# Altium schematic symbol library 0.5 - 保险丝-晶振-光耦.SchLib: 28 symbols
Pins are listed as number, name and electrical type; pins without a type are passive.

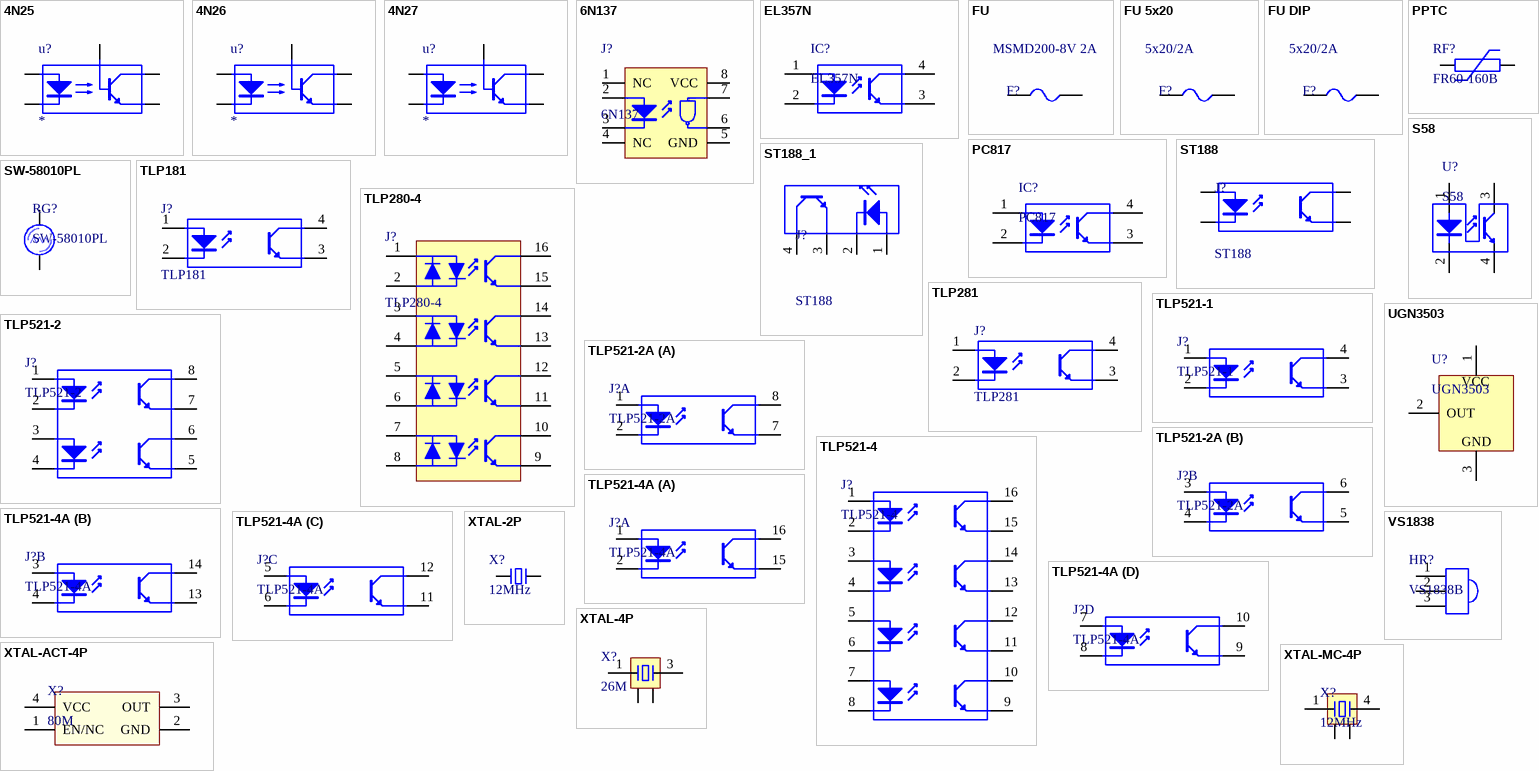
[diagram p0: symbols 4N25 to XTAL-MC-4P]

## 4N25
designator u?
1.库作者: 冰凌猫; 2.库版本: v2.0 (2021.03.30); 3.交流分享: Q群514746572,开源更新,欢迎一起交流学习PCB设计; 4.作者声明: 旨为整合最全库集,欢迎转载,禁止商用！-冰凌猫; 5.备注说明: 该库已二次整合过网上各热销库,基本最全,无需重复搜购安装
footprint DIP-6 (6.8*7.6*3.8(长宽高）)
pins: 1 LED Anode, 2 LED Cathode, 4 Emitter, 5 Collector, 6 BASE

## 4N26
designator u?
1.库作者: 冰凌猫; 2.库版本: v2.0 (2021.03.30); 3.交流分享: Q群514746572,开源更新,欢迎一起交流学习PCB设计; 4.作者声明: 旨为整合最全库集,欢迎转载,禁止商用！-冰凌猫; 5.备注说明: 该库已二次整合过网上各热销库,基本最全,无需重复搜购安装
footprint DIP-6 (6.8*7.6*3.8(长宽高）)
pins: 1 LED Anode, 2 LED Cathode, 4 Emitter, 5 Collector, 6 BASE

## 4N27
designator u?
1.库作者: 冰凌猫; 2.库版本: v2.0 (2021.03.30); 3.交流分享: Q群514746572,开源更新,欢迎一起交流学习PCB设计; 4.作者声明: 旨为整合最全库集,欢迎转载,禁止商用！-冰凌猫; 5.备注说明: 该库已二次整合过网上各热销库,基本最全,无需重复搜购安装
footprint DIP-6 (6.8*7.6*3.8(长宽高）)
pins: 1 LED Anode, 2 LED Cathode, 4 Emitter, 5 Collector, 6 BASE

## 6N137
designator J?
10M高速集成光耦; 1.库作者: 冰凌猫; 2.库版本: v2.0 (2021.03.30); 3.交流分享: Q群514746572,开源更新,欢迎一起交流学习PCB设计; 4.作者声明: 旨为整合最全库集,欢迎转载,禁止商用！-冰凌猫; 5.备注说明: 该库已二次整合过网上各热销库,基本最全,无需重复搜购安装; 0.0_BOM名称: 10M高速集成光耦
footprint DIP8-300 (9.4*7.6*3.8(长宽高）)
footprint DIP8-300_MH (带底座 9.4*7.6*3.8(长宽高）)
footprint SOP8_L (5*6*1.8mm（长宽高）)
footprint SOP8_M (5*6*1.8mm（长宽高）)
footprint SOP8_N (5*6*1.8mm（长宽高）)
pins: 1 NC "Anode", 2 LED+ "Cathode", 3 LED- "Cathode", 4 NC "Cathode", 5 GND "Collector", 6 Vo "Emitter", 7 Ve "Emitter", 8 VCC "Emitter"

## EL357N
designator IC?
线性光耦; 1.库作者: 冰凌猫; 2.库版本: v2.0 (2021.03.30); 3.交流分享: Q群514746572,开源更新,欢迎一起交流学习PCB设计; 4.作者声明: 旨为整合最全库集,欢迎转载,禁止商用！-冰凌猫; 5.备注说明: 该库已二次整合过网上各热销库,基本最全,无需重复搜购安装; 0.0_BOM名称: 线性光耦
footprint DIP4-300 (4.6*7.6*3.8(长宽高）)
footprint SOP4_N (4.4*6.8*2.1mm（长宽高）)
footprint SOP4_L (4.4*6.8*2.1mm（长宽高）)
footprint SOP4_M (4.4*6.8*2.1mm（长宽高）)
pins: 1 A "Anode", 2 K "Cathode", 3 E "Emitter", 4 C "Collector"

## FU
designator F?, comment MSMD200-8V 2A
贴片保险丝; 1.库作者: 冰凌猫; 2.库版本: v2.0 (2021.03.30); 3.交流分享: Q群514746572,开源更新,欢迎一起交流学习PCB设计; 4.作者声明: 旨为整合最全库集,欢迎转载,禁止商用！-冰凌猫; 5.备注说明: 该库已二次整合过网上各热销库,基本最全,无需重复搜购安装; 0.0_BOM名称: 贴片保险丝
footprint FU 0402 (贴片保险丝)
footprint FU 0603 (贴片保险丝)
footprint FU 0805 (贴片保险丝)
footprint FU 1206 (贴片保险丝)
footprint FU 1210 (贴片保险丝)
footprint FU 1812 (贴片保险丝)
pins: 1, 2

## FU 5x20
designator F?, comment 5x20/2A
5*20保险丝; 1.库作者: 冰凌猫; 2.库版本: v2.0 (2021.03.30); 3.交流分享: Q群514746572,开源更新,欢迎一起交流学习PCB设计; 4.作者声明: 旨为整合最全库集,欢迎转载,禁止商用！-冰凌猫; 5.备注说明: 该库已二次整合过网上各热销库,基本最全,无需重复搜购安装; 0.0_BOM名称: 5*20保险丝
footprint FU BLX-A (BLX-A型保险丝座)
footprint FU 5x20 (5*20保险管底座夹子)
pins: 1, 2

## FU DIP
designator F?, comment 5x20/2A
直插保险丝; 1.库作者: 冰凌猫; 2.库版本: v2.0 (2021.03.30); 3.交流分享: Q群514746572,开源更新,欢迎一起交流学习PCB设计; 4.作者声明: 旨为整合最全库集,欢迎转载,禁止商用！-冰凌猫; 5.备注说明: 该库已二次整合过网上各热销库,基本最全,无需重复搜购安装; 0.0_BOM名称: 直插保险丝
footprint FU 4x16 (4*16mm(直径，脚距）)
footprint FU 4x16_V (4*16mm(直径，脚距）)
pins: 1, 2

## PC817
designator IC?
线性光耦; 1.库作者: 冰凌猫; 2.库版本: v2.0 (2021.03.30); 3.交流分享: Q群514746572,开源更新,欢迎一起交流学习PCB设计; 4.作者声明: 旨为整合最全库集,欢迎转载,禁止商用！-冰凌猫; 5.备注说明: 该库已二次整合过网上各热销库,基本最全,无需重复搜购安装; 0.0_BOM名称: 线性光耦
footprint DIP4-300 (4.6*7.6*3.8(长宽高）)
pins: 1 A "Anode", 2 K "Cathode", 3 E "Emitter", 4 C "Collector"

## PPTC
designator RF?, comment FR60-160B
PPTC自恢复保险丝; 1.库作者: 冰凌猫; 2.库版本: v2.0 (2021.03.30); 3.交流分享: Q群514746572,开源更新,欢迎一起交流学习PCB设计; 4.作者声明: 旨为整合最全库集,欢迎转载,禁止商用！-冰凌猫; 5.备注说明: 该库已二次整合过网上各热销库,基本最全,无需重复搜购安装; 0.0_BOM名称: PPTC自恢复保险丝
footprint FR60-160B (直径15.5mm，厚度3mm，脚距5.1mm)
pins: 1, 2

## S58
designator U?
槽间光耦; 1.库作者: 冰凌猫; 2.库版本: v2.0 (2021.03.30); 3.交流分享: Q群514746572,开源更新,欢迎一起交流学习PCB设计; 4.作者声明: 旨为整合最全库集,欢迎转载,禁止商用！-冰凌猫; 5.备注说明: 该库已二次整合过网上各热销库,基本最全,无需重复搜购安装; 0.0_BOM名称: 槽间光耦
footprint S58 (对射型光耦)
pins: 1 A, 2 K, 3 C, 4 E

## ST188
designator J?
反射式光电传感器; 1.库作者: 冰凌猫; 2.库版本: v2.0 (2021.03.30); 3.交流分享: Q群514746572,开源更新,欢迎一起交流学习PCB设计; 4.作者声明: 旨为整合最全库集,欢迎转载,禁止商用！-冰凌猫; 5.备注说明: 该库已二次整合过网上各热销库,基本最全,无需重复搜购安装
footprint ST188 (反射光电传感器)
pins: 1 A "Anode", 2 K "Cathode", 3 E "Emitter", 4 C "Collector"

## ST188_1
designator J?, comment ST188
反射型光耦; 1.库作者: 冰凌猫; 2.库版本: v2.0 (2021.03.30); 3.交流分享: Q群514746572,开源更新,欢迎一起交流学习PCB设计; 4.作者声明: 旨为整合最全库集,欢迎转载,禁止商用！-冰凌猫; 5.备注说明: 该库已二次整合过网上各热销库,基本最全,无需重复搜购安装; 0.0_BOM名称: 反射型光耦
footprint ST188 (反射型光耦)
pins: 1 A "Anode", 2 K "Cathode", 3 E "Emitter", 4 C "Collector"

## SW-58010PL
designator RG?
震动传感器; 1.库作者: 冰凌猫; 2.库版本: v2.0 (2021.03.30); 3.交流分享: Q群514746572,开源更新,欢迎一起交流学习PCB设计; 4.作者声明: 旨为整合最全库集,欢迎转载,禁止商用！-冰凌猫; 5.备注说明: 该库已二次整合过网上各热销库,基本最全,无需重复搜购安装; 0.0_BOM名称: 震动传感器
footprint SW-58010PL-WI (3.2mm*8.5mm(直径*长度）)
footprint SW-58010PL-LI (3.2mm*8.5mm(直径*长度）)
pins: 1, 2

## TLP181
designator J?
光耦; 1.库作者: 冰凌猫; 2.库版本: v2.0 (2021.03.30); 3.交流分享: Q群514746572,开源更新,欢迎一起交流学习PCB设计; 4.作者声明: 旨为整合最全库集,欢迎转载,禁止商用！-冰凌猫; 5.备注说明: 该库已二次整合过网上各热销库,基本最全,无需重复搜购安装; 0.0_BOM名称: 光耦
footprint SOP4_N (4.4*6.8*2.1mm（长宽高）)
footprint SOP4_L (4.4*6.8*2.1mm（长宽高）)
footprint SOP4_M (4.4*6.8*2.1mm（长宽高）)
footprint DIP4-300 (Footprint not found)
pins: 1 A "Anode", 2 K "Cathode", 3 E "Emitter", 4 C "Collector"

## TLP280-4
designator J?
4组光耦; 1.库作者: 冰凌猫; 2.库版本: v2.0 (2021.03.30); 3.交流分享: Q群514746572,开源更新,欢迎一起交流学习PCB设计; 4.作者声明: 旨为整合最全库集,欢迎转载,禁止商用！-冰凌猫; 5.备注说明: 该库已二次整合过网上各热销库,基本最全,无需重复搜购安装; 0.0_BOM名称: 4组光耦
footprint SOP16N_N (10.3*7*1.8mm（长宽高）)
footprint SOP16N_L (10.3*7*1.8mm（长宽高）)
footprint SOP16N_M (10.3*7*1.8mm（长宽高）)
pins: 1 A "Anode", 2 K "Cathode", 3 E "Emitter", 4 C "Collector", 5, 6, 7, 8, 9, 10, 11, 12, 13, 14, 15, 16

## TLP281
designator J?
光耦; 1.库作者: 冰凌猫; 2.库版本: v2.0 (2021.03.30); 3.交流分享: Q群514746572,开源更新,欢迎一起交流学习PCB设计; 4.作者声明: 旨为整合最全库集,欢迎转载,禁止商用！-冰凌猫; 5.备注说明: 该库已二次整合过网上各热销库,基本最全,无需重复搜购安装
footprint SOP4 (间距1.27mm)
pins: 1 A "Anode", 2 K "Cathode", 3 E "Emitter", 4 C "Collector"

## TLP521-1
designator J?
1路开关光耦; 1.库作者: 冰凌猫; 2.库版本: v2.0 (2021.03.30); 3.交流分享: Q群514746572,开源更新,欢迎一起交流学习PCB设计; 4.作者声明: 旨为整合最全库集,欢迎转载,禁止商用！-冰凌猫; 5.备注说明: 该库已二次整合过网上各热销库,基本最全,无需重复搜购安装; 0.0_BOM名称: 1路开关光耦
footprint DIP4-300 (4.6*7.6*3.8(长宽高）)
footprint SOP4-W2.54_N (6.5*4.58*3.5mm（长宽高）)
footprint SOP4-W2.54_L (6.5*4.58*3.5mm（长宽高）)
footprint SOP4-W2.54_M (6.5*4.58*3.5mm（长宽高）)
pins: 1 A "Anode", 2 K "Cathode", 3 E "Emitter", 4 C "Collector"

## TLP521-2
designator J?
2路开关光耦; 1.库作者: 冰凌猫; 2.库版本: v2.0 (2021.03.30); 3.交流分享: Q群514746572,开源更新,欢迎一起交流学习PCB设计; 4.作者声明: 旨为整合最全库集,欢迎转载,禁止商用！-冰凌猫; 5.备注说明: 该库已二次整合过网上各热销库,基本最全,无需重复搜购安装; 0.0_BOM名称: 2路开关光耦
footprint DIP8-300 (9.4*7.6*3.8(长宽高）)
footprint SOP8-W2.54_N (6.5*9.66*3.5mm（长宽高）)
footprint SOP8-W2.54_L (6.5*9.66*3.5mm（长宽高）)
footprint SOP8-W2.54_M (6.5*9.66*3.5mm（长宽高）)
pins: 1 1A "Anode", 2 1K "Cathode", 3 2A "Anode", 4 2K "Cathode", 5 2E "Emitter", 6 2C "Collector", 7 1E "Emitter", 8 1C "Collector"

## TLP521-2A
designator J?
2路开关光耦; 1.库作者: 冰凌猫; 2.库版本: v2.0 (2021.03.30); 3.交流分享: Q群514746572,开源更新,欢迎一起交流学习PCB设计; 4.作者声明: 旨为整合最全库集,欢迎转载,禁止商用！-冰凌猫; 5.备注说明: 该库已二次整合过网上各热销库,基本最全,无需重复搜购安装; 0.0_BOM名称: 2路开关光耦
footprint DIP8-300 (9.4*7.6*3.8(长宽高）)
footprint SOP8-W2.54_N (6.5*9.66*3.5mm（长宽高）)
footprint SOP8-W2.54_L (6.5*9.66*3.5mm（长宽高）)
footprint SOP8-W2.54_M (6.5*9.66*3.5mm（长宽高）)
part A pins: 1 1A "Anode", 2 1K "Cathode", 7 1E "Emitter", 8 1C "Collector"
part B pins: 3 2A "Anode", 4 2K "Cathode", 5 2E "Emitter", 6 2C "Collector"

## TLP521-4
designator J?
4路开关光耦; 1.库作者: 冰凌猫; 2.库版本: v2.0 (2021.03.30); 3.交流分享: Q群514746572,开源更新,欢迎一起交流学习PCB设计; 4.作者声明: 旨为整合最全库集,欢迎转载,禁止商用！-冰凌猫; 5.备注说明: 该库已二次整合过网上各热销库,基本最全,无需重复搜购安装; 0.0_BOM名称: 4路开关光耦
footprint DIP16-300 (19.3*7.6*3.8(长宽高）)
footprint SOP16-W2.54_N (6.5*19.82*3.5mm（长宽高）)
footprint SOP16-W2.54_L (6.5*19.82*3.5mm（长宽高）)
footprint SOP16-W2.54_M (6.5*19.82*3.5mm（长宽高）)
pins: 1 1A "Anode", 2 1K "Cathode", 3 2A "Anode", 4 2K "Cathode", 5 3A "Anode", 6 3K "Cathode", 7 4A "Anode", 8 4K "Cathode", 9 4E "Emitter", 10 4C "Collector", 11 3E "Emitter", 12 3C "Collector", 13 2E "Emitter", 14 2C "Collector", 15 1E "Emitter", 16 1C "Collector"

## TLP521-4A
designator J?
4路开关光耦; 1.库作者: 冰凌猫; 2.库版本: v2.0 (2021.03.30); 3.交流分享: Q群514746572,开源更新,欢迎一起交流学习PCB设计; 4.作者声明: 旨为整合最全库集,欢迎转载,禁止商用！-冰凌猫; 5.备注说明: 该库已二次整合过网上各热销库,基本最全,无需重复搜购安装; 0.0_BOM名称: 4路开关光耦
footprint DIP16-300 (19.3*7.6*3.8(长宽高）)
footprint SOP16-W2.54_N (6.5*19.82*3.5mm（长宽高）)
footprint SOP16-W2.54_L (6.5*19.82*3.5mm（长宽高）)
footprint SOP16-W2.54_M (6.5*19.82*3.5mm（长宽高）)
part A pins: 1 1A "Anode", 2 1K "Cathode", 15 1E "Emitter", 16 1C "Collector"
part B pins: 3 2A "Anode", 4 2K "Cathode", 13 2E "Emitter", 14 2C "Collector"
part C pins: 5 3A "Anode", 6 3K "Cathode", 11 3E "Emitter", 12 3C "Collector"
part D pins: 7 4A "Anode", 8 4K "Cathode", 9 4E "Emitter", 10 4C "Collector"

## UGN3503
designator U?
线性霍尔传感器; 1.库作者: 冰凌猫; 2.库版本: v2.0 (2021.03.30); 3.交流分享: Q群514746572,开源更新,欢迎一起交流学习PCB设计; 4.作者声明: 旨为整合最全库集,欢迎转载,禁止商用！-冰凌猫; 5.备注说明: 该库已二次整合过网上各热销库,基本最全,无需重复搜购安装; 0.0_BOM名称: 线性霍尔传感器
footprint VS1838B-A (一体红外接收头)
footprint VS1838B-B (一体红外接收头)
footprint VS1838B-B_H (卧式一体红外接收头)
footprint VS1838B-A_H (卧式一体红外接收头)
pins: 1 VCC, 2 OUT, 3 GND

## VS1838
designator HR?, comment VS1838B
红外接收头; 1.库作者: 冰凌猫; 2.库版本: v2.0 (2021.03.30); 3.交流分享: Q群514746572,开源更新,欢迎一起交流学习PCB设计; 4.作者声明: 旨为整合最全库集,欢迎转载,禁止商用！-冰凌猫; 5.备注说明: 该库已二次整合过网上各热销库,基本最全,无需重复搜购安装; 0.0_BOM名称: 红外接收头
footprint VS1838B-A (一体红外接收头)
footprint VS1838B-B (一体红外接收头)
footprint VS1838B-B_H (卧式一体红外接收头)
footprint VS1838B-A_H (卧式一体红外接收头)
pins: 1 A "Anode", 2 K "Cathode", 3 E "Emitter"

## XTAL-2P
designator X?, comment 12MHz
2脚无源脚晶振; 1.库作者: 冰凌猫; 2.库版本: v2.0 (2021.03.30); 3.交流分享: Q群514746572,开源更新,欢迎一起交流学习PCB设计; 4.作者声明: 旨为整合最全库集,欢迎转载,禁止商用！-冰凌猫; 5.备注说明: 该库已二次整合过网上各热销库,基本最全,无需重复搜购安装; 0.0_BOM名称: 2脚无源脚晶振
footprint OSC HC-49S
footprint OSC 455E-LI (3.6mm*7mm*9mm(长*宽*高)  脚距5mm)
footprint OSC 455E-WI (3.6mm*7mm*9mm(长*宽*高)  脚距5mm)
footprint OSC 3215-2P (3.2*1.5*0.6mm(长宽高))
footprint OSC 5032-2P (5mm*3.2mm*0.8mm(长*宽*高))
footprint OSC 6035-2P (6mm*3.5mm*1mm(长*宽*高))
footprint OSC 7050-2P (7mm*5mm*1.3mm(长*宽*高))
footprint OSC 8045-2P (8mm*4.5mm*1.8mm(长*宽*高))
footprint OSC-2x6-LI (脚距：1.6mm)
footprint OSC-2x6-WI-A (脚距：1.6mm)
footprint OSC-2x6-WI-B (脚距：1.6mm)
footprint OSC-2x6-WS (脚距：1.6mm)
footprint OSC-3x8-LI (脚距：2mm)
footprint OSC-3x8-WI-A (脚距：2mm)
footprint OSC-3x8-WI-B (脚距：2mm)
footprint OSC-3x8-WS (脚距：2mm)
footprint OSC-3x10-LI (脚距：2mm)
footprint OSC-3x10-WI-A (脚距：2mm)
footprint OSC-3x10-WI-B (脚距：2mm)
footprint OSC-3x10-WS (脚距：2mm)
footprint OSC HC-49SMD
footprint OSC HC-49U
footprint OSC UM-1
footprint OSC UM-5
pins: 1, 2

## XTAL-4P
designator X?, comment 26M
4脚无源晶振; 1.库作者: 冰凌猫; 2.库版本: v2.0 (2021.03.30); 3.交流分享: Q群514746572,开源更新,欢迎一起交流学习PCB设计; 4.作者声明: 旨为整合最全库集,欢迎转载,禁止商用！-冰凌猫; 5.备注说明: 该库已二次整合过网上各热销库,基本最全,无需重复搜购安装; 0.0_BOM名称: 4脚无源晶振
footprint OSC 1612-4P (1.6*1.2*0.35mm（长宽高）)
footprint OSC 2025-4P (2*2.5*0.55mm(长宽高))
footprint OSC 3225-4P (3.2*2.5*0.7mm(长宽高))
footprint OSC 4025-4P (4*2.5*0.7mm(长宽高))
footprint OSC 5032-4P (5mm*3.2mm*0.8mm(长*宽*高))
footprint OSC 6035-4P (6mm*3.5mm*1mm(长*宽*高))
footprint OSC 7050-4P (7mm*5mm*1.3mm(长*宽*高))
footprint OSC 8045-4P (8mm*4.5mm*1.6mm(长*宽*高))
footprint OSC 8045-4P-C (8mm*4.5mm*1.8mm(长*宽*高))
pins: 1, 2, 3, 4

## XTAL-ACT-4P
designator X?, comment 80M
4脚有源晶振; 1.库作者: 冰凌猫; 2.库版本: v2.0 (2021.03.30); 3.交流分享: Q群514746572,开源更新,欢迎一起交流学习PCB设计; 4.作者声明: 旨为整合最全库集,欢迎转载,禁止商用！-冰凌猫; 5.备注说明: 该库已二次整合过网上各热销库,基本最全,无需重复搜购安装; 0.0_BOM名称: 4脚有源晶振
footprint OSC 1612-4P (1.6*1.2*0.35mm（长宽高）)
footprint OSC 2025-4P (2*2.5*0.55mm(长宽高))
footprint OSC 3225-4P (3.2*2.5*0.7mm(长宽高))
footprint OSC 4025-4P (4*2.5*0.7mm(长宽高))
footprint OSC 5032-4P (5mm*3.2mm*0.8mm(长*宽*高))
footprint OSC 6035-4P (6mm*3.5mm*1mm(长*宽*高))
footprint OSC 7050-4P (7mm*5mm*1.3mm(长*宽*高))
footprint OSC 8045-4P (8mm*4.5mm*1.6mm(长*宽*高))
footprint OSC 8045-4P-C (8mm*4.5mm*1.8mm(长*宽*高))
pins: 1 EN/NC, 2 GND, 3 OUT, 4 VCC

## XTAL-MC-4P
designator X?, comment 12MHz
MC系列4脚晶振; 0.0_BOM名称: 2脚无源脚晶振; 1.库作者: 冰凌猫; 2.库版本: v2.0 (2021.03.30); 3.交流分享: Q群514746572,开源更新,欢迎一起交流学习PCB设计; 4.作者声明: 旨为整合最全库集,欢迎转载,禁止商用！-冰凌猫; 5.备注说明: 该库已二次整合过网上各热销库,基本最全,无需重复搜购安装
footprint OSC MC-146 (6.7mm*1.5mm*1.4mm(长*宽*高)      [PCB学习群514746572])
footprint OSC MC-156 (7.1mm*2.5mm*1.5mm(长*宽*高)      [PCB学习群514746572])
footprint OSC MC-306 (8mm*3.2mm*2.54mm(长*宽*高)      [PCB学习群514746572])
footprint OSC MC-406 (9.6mm*4.06mm*3.6mm(长*宽*高)      [ PCB学习群514746572 ])
footprint OSC MC-405 (9.6mm*4.06mm*3.6mm(长*宽*高)      [ PCB学习群514746572 ])
pins: 1, 2, 3, 4